# EAGLE library part 10144517-081802LF (library CONNECTORs)
80 Position Connector Receptacle, Outer Shroud Contacts Surface Mount Gold
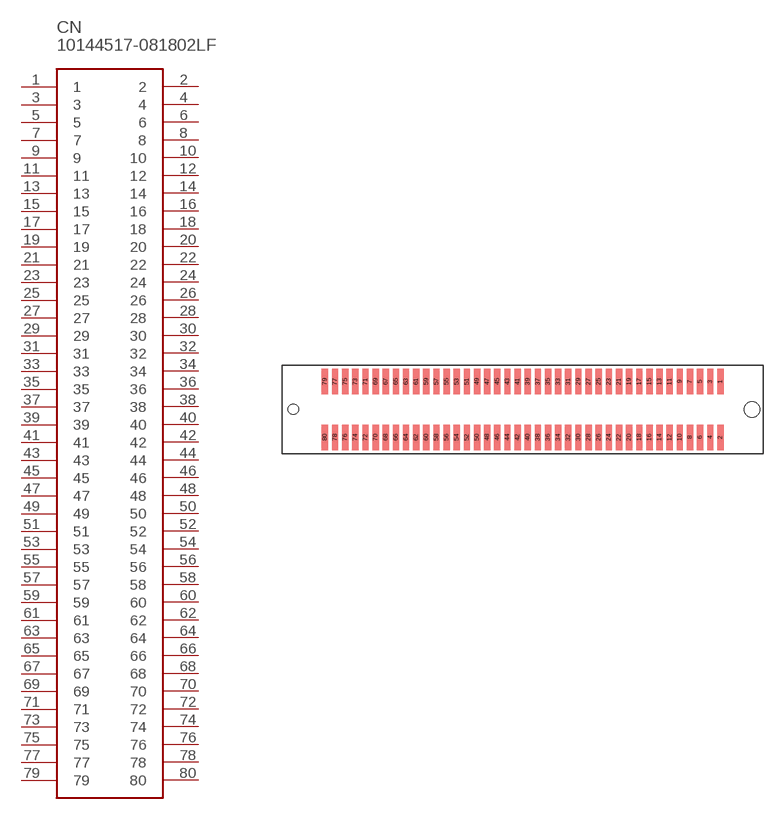
[diagram p86: symbol with the pads of 10144517-081802LF; footprint 10144517-081802LF]

Designator prefix CN

## 10144517-081802LF (DIGIKEY: 609-5437-1-ND; HEIGHT: 3.7; PRICE_PER: 1.42; VALUE: 10144517-081802LF)  [10144517-081802LF]
1  1
2  2
3  3
4  4
5  5
6  6
7  7
8  8
9  9
10  10
11  11
12  12
13  13
14  14
15  15
16  16
17  17
18  18
19  19
20  20
21  21
22  22
23  23
24  24
25  25
26  26
27  27
28  28
29  29
30  30
31  31
32  32
33  33
34  34
35  35
36  36
37  37
38  38
39  39
40  40
41  41
42  42
43  43
44  44
45  45
46  46
47  47
48  48
49  49
50  50
51  51
52  52
53  53
54  54
55  55
56  56
57  57
58  58
59  59
60  60
61  61
62  62
63  63
64  64
65  65
66  66
67  67
68  68
69  69
70  70
71  71
72  72
73  73
74  74
75  75
76  76
77  77
78  78
79  79
80  80

## Footprint 10144517-081802LF (pad centres in mm)
smd 0.5 x 2: 1 15.6,2.2; 2 15.6,-2.2; 3 14.8,2.2; 4 14.8,-2.2; 5 14,2.2; 6 14,-2.2; 7 13.2,2.2; 8 13.2,-2.2; 9 12.4,2.2; 10 12.4,-2.2; 11 11.6,2.2; 12 11.6,-2.2; 13 10.8,2.2; 14 10.8,-2.2; 15 10,2.2; 16 10,-2.2; 17 9.2,2.2; 18 9.2,-2.2; 19 8.4,2.2; 20 8.4,-2.2; 21 7.6,2.2; 22 7.6,-2.2; 23 6.8,2.2; 24 6.8,-2.2; 25 6,2.2; 26 6,-2.2; 27 5.2,2.2; 28 5.2,-2.2; 29 4.4,2.2; 30 4.4,-2.2; 31 3.6,2.2; 32 3.6,-2.2; 33 2.8,2.2; 34 2.8,-2.2; 35 2,2.2; 36 2,-2.2; 37 1.2,2.2; 38 1.2,-2.2; 39 0.4,2.2; 40 0.4,-2.2; 41 -0.4,2.2; 42 -0.4,-2.2; 43 -1.2,2.2; 44 -1.2,-2.2; 45 -2,2.2; 46 -2,-2.2; 47 -2.8,2.2; 48 -2.8,-2.2; 49 -3.6,2.2; 50 -3.6,-2.2; 51 -4.4,2.2; 52 -4.4,-2.2; 53 -5.2,2.2; 54 -5.2,-2.2; 55 -6,2.2; 56 -6,-2.2; 57 -6.8,2.2; 58 -6.8,-2.2; 59 -7.6,2.2; 60 -7.6,-2.2; 61 -8.4,2.2; 62 -8.4,-2.2; 63 -9.2,2.2; 64 -9.2,-2.2; 65 -10,2.2; 66 -10,-2.2; 67 -10.8,2.2; 68 -10.8,-2.2; 69 -11.6,2.2; 70 -11.6,-2.2; 71 -12.4,2.2; 72 -12.4,-2.2; 73 -13.2,2.2; 74 -13.2,-2.2; 75 -14,2.2; 76 -14,-2.2; 77 -14.8,2.2; 78 -14.8,-2.2; 79 -15.6,2.2; 80 -15.6,-2.2
hole 0.8 at -18.1,0
hole 1.2 at 18.1,0